# Altium integrated library TW-02-03-T-D-335-100.IntLib: 1 symbol
Pins are listed as number, name and electrical type; pins without a type are passive.

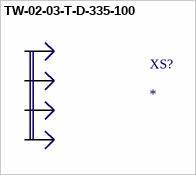
[diagram p0: symbol TW-02-03-T-D-335-100]

## TW-02-03-T-D-335-100
designator XS?
4 Position Header Spacer Connector 0.079 (2.00mm) Tin Through Hole; MP: TW-02-03-T-D-335-100; MF: Samtec; Value: *; SnapEDA_Link: https://www.snapeda.com/parts/TW-02-03-T-D-335-100/Samtec/view-part/3263296/?ref=snap; Purchase-URL: https://pricing.snapeda.com/search/part/TW-02-03-T-D-335-100/?ref=eda; Check_prices: https://www.snapeda.com/parts/TW-02-03-T-D-335-100/Samtec/view-part/3263296/?ref=eda; Availability: Bad; Price: None; Package: None
footprint SAMTEC_TW-02-03-T-D-335-100
pins: 01, 02, 03, 04 4